# EAGLE library part BQ21040 (library monoblink_wifi)
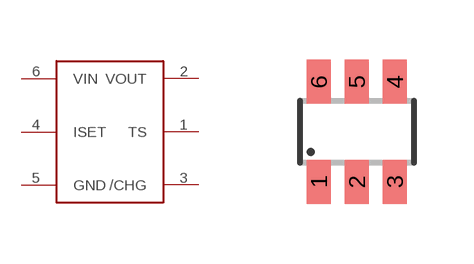
[diagram p1: symbol with the pads of SOT23-6; footprint SOT23-6]

Designator prefix -

## BQ21040  [SOT23-6]
1  TS
2  VOUT
3  /CHG
4  ISET
5  GND
6  VIN

## Footprint SOT23-6 (pad centres in mm)
Small Outline Transistor 6 lead
smd 0.6 x 1.1: 1 -0.95,-1.25; 2 0,-1.25; 3 0.95,-1.25; 4 0.95,1.25; 5 0,1.25; 6 -0.95,1.25